# Altium schematic symbol library ECG_board.SchLib: 15 symbols
Pins are listed as number, name and electrical type; pins without a type are passive.

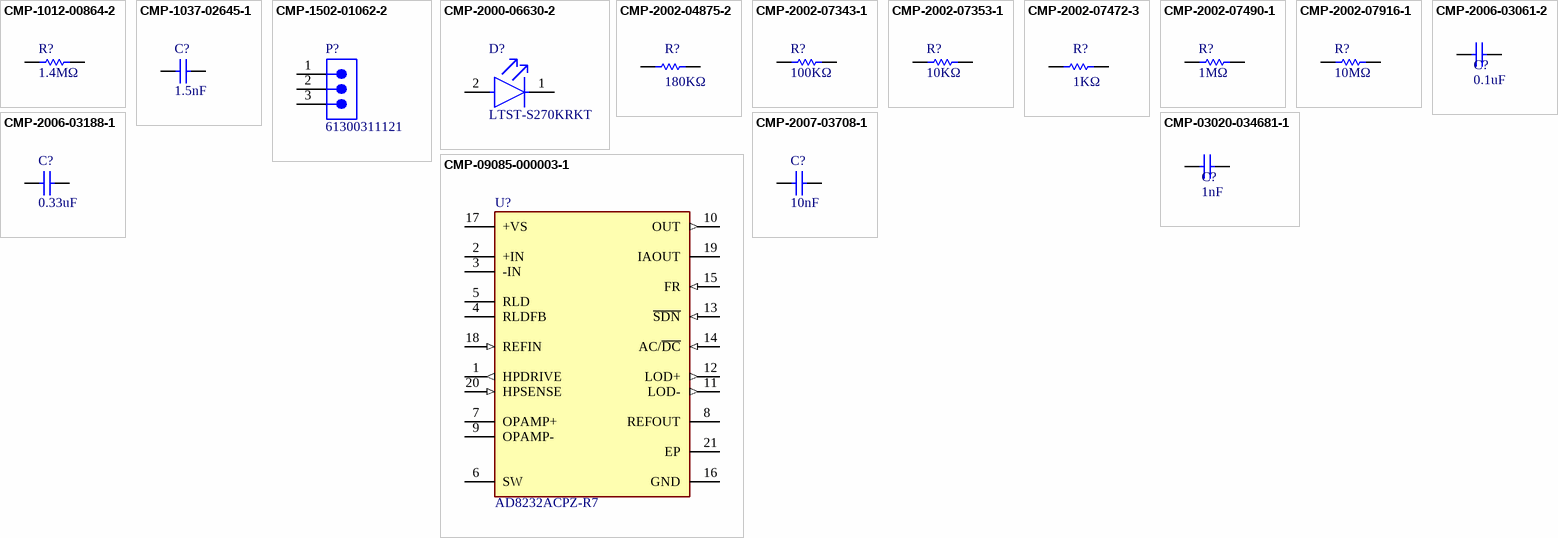
[diagram p0: symbols CMP-1012-00864-2 to CMP-09085-000003-1]

## CMP-1012-00864-2
designator R?, comment 1.4MΩ
RC0603FR-071M4L; Manufacturer: Yageo; Manufacturer: Vishay Dale; Manufacturer Part Number: CRCW06031M40FKTA; Manufacturer Part Number: CRCW06031M40FKEB; Manufacturer: Vishay; Manufacturer Part Number: CRCW06031M40FKEA; Part Number: RC0603FR-071M4L; Manufacturer Part Number: RC0603FR-071M4L
footprint RESC1608X55X25ML10T15 (Chip Resistor, 2-Leads, Body 1.60x0.80mm, IPC Low Density)
footprint RESC1608X55X25LL10T15 (Chip Resistor, 2-Leads, Body 1.60x0.80mm, IPC High Density)
footprint RESC1608X55X25NL10T15 (Chip Resistor, 2-Leads, Body 1.60x0.80mm, IPC Medium Density)
pins: 1, 2
1 alternate drawing of the same symbol

## CMP-1037-02645-1
designator C?, comment 1.5nF
12062C152KAT2A Checked Ceramic Capacitor, Multilayer, Ceramic, 200V, 10% +Tol, 10% -Tol, X7R, 15% TC, 0.0015uF, Surface Mount, 1206 Ceramic Capacitors 0.0582; Manufacturer: KEMET; Manufacturer Part Number: C1206C152K2GAC; Manufacturer Part Number: C1206C152K2RAC; Manufacturer: Kyocera AVX; Manufacturer Part Number: C1206C152K2GACTU; Manufacturer: Vishay; Manufacturer Part Number: VJ1206Y152KXCMC; Manufacturer Part Number: C1206C152K2RAC-TM; Manufacturer Part Number: VJ1206A152KBCAT; Manufacturer Part Number: VJ1206Y152KXCAP; Manufacturer Part Number: VJ1206A152KXCAR; Manufacturer Part Number: VJ1206A152KXCAT; Manufacturer Part Number: 12062C152KAT4A; Manufacturer Part Number: C1206C152K2RACTU; Manufacturer Part Number: VJ1206A152KXCMT; Manufacturer Part Number: VJ1206Y152KXCAC; Manufacturer Part Number: VJ1206Y152KXCMP; Case-EIA: 1206; Tolerance: Â±10%; Case-Metric: 3216; Value: 1.5nF; Max Thickness: 1.7 mm; Technology: SMT; Rated Voltage: 200 V; Manufacturer Part Number: 12062C152KAT2A
footprint CAPC1206(3216)170_L (Chip Capacitor, Body 3.2x1.6mm, Height 1.7mm, IPC High Density)
footprint CAPC1206(3216)170_M (Chip Capacitor, Body 3.2x1.6mm, Height 1.7mm, IPC Low Density)
footprint CAPC1206(3216)170_N (Chip Capacitor, Body 3.2x1.6mm, Height 1.7mm, IPC Medium Density)
pins: 1, 2
1 alternate drawing of the same symbol

## CMP-1502-01062-2
designator P?, comment 61300311121
NexarPartId: 32855521; Manufacturer: Wurth Electronics; Voltage Rating: 250V; Current Rating: 3A; Connector Type: Male Pin; Number of Positions: 3; Gender: Male; Contact Resistance: 20mΩ; Pitch: 2.54mm; Max Operating Temperature: 105°C; Lead Pitch: 2.54mm; Lead Free: Lead Free; Contact Mating Length: 5.9944mm; Contact Material: Copper; Number of Pins: 3; Orientation: Vertical; Height: 8.94mm; Packaging: Bulk; Min Operating Temperature: -40°C; Mount: Through Hole; RoHS: Compliant; Number of Contacts: 3; Operating Supply Voltage: 250V; Termination: Solder; Number of Rows: 1; Contact Plating: Gold; Color: Black; REACH SVHC: Unknown; Manufacturer Part Number: 61300311121
footprint 61300311121 (THT Vertical Pin Header WR-PHD, Pitch 2.54 mm, Single Row, 3 pins)
pins: 1, 2, 3

## CMP-2000-06630-2
designator D?, comment LTST-S270KRKT
LED RED CLEAR CHIP SMD R/A; Manufacturer: Vishay Lite-On; Test Current: 20mA; Number of LEDs: 1; Power Rating: 75mW; Lens Style: Diffused; Luminous Intensity: 54mcd; Wavelength: 639nm; Dominant Wavelength: 631nm; Lens Color: Colorless; Forward Voltage: 2V; Viewing Angle: 130°; Forward Current: 30mA; Reverse Voltage: 5V; Illumination Color: Red; Case Code (Imperial): 0603; Color: Red; Packaging: Tape and Reel; Number of Pins: 2; Length: 1.6mm; Lens Transparency: Clear; Width: 1.15mm; Power Dissipation: 75mW; Lead Free: Lead Free; Max Power Dissipation: 75mW; Case/Package: 0603; Max Operating Temperature: 85°C; Mount: Surface Mount; Depth: 0.6mm; Number of Elements: 1; Radiation Hardening: No; Case Code (Metric): 1608; Package Quantity: 1; Height: 0.6mm; Min Operating Temperature: -55°C; Manufacturer Part Number: LTST-S270KRKT
footprint FP-LTST-S270KRKT-MFG
pins: 1 C, 2 A

## CMP-2002-04875-2
designator R?, comment 180KΩ
Thick Film Chip Resistors 0402 180kΩ 0.0625W 1% 100ppm/°C; Manufacturer: Bourns; Manufacturer Part Number: CR0402-FX-1803GLF; Power Rating: 62.5mW; Resistance: 180kR; Voltage Rating: 50V; Depth: 0.5mm; Tolerance: 1%; Width: 0.5mm; Package Quantity: 10000; Length: 1mm; Height: 0.35mm; Case/Package: 0402; Case Code (Metric): 1005; Thickness: 356um; Max Operating Temperature: 125°C; Termination: SMD/SMT; Packaging: Tape and Reel; Mount: Surface Mount; Military Standard: Not; Contact Plating: Tin; Case Code (Imperial): 0402; Temperature Coefficient: 100ppm/°C; Min Operating Temperature: -55°C; Radiation Hardening: No; Composition: Thick Film
footprint FP-CR0402-IPC_A
footprint FP-CR0402-IPC_C
footprint FP-CR0402-MFG
footprint FP-CR0402-IPC_B
pins: 1, 2

## CMP-2002-07343-1
designator R?, comment 100KΩ
RC0402FR-07100KL; Manufacturer: Yageo / Phycomp; Manufacturer: Yageo; Part Number: RC0402FR-07100KL; Manufacturer Part Number: RC0402FR-07100KL
footprint RESC1005X40X25NL05T10 (Chip Resistor, 2-Leads, Body 1.00x0.50mm, IPC Medium Density)
footprint RESC1005X40X25LL05T10 (Chip Resistor, 2-Leads, Body 1.00x0.50mm, IPC High Density)
footprint RESC1005X40X25ML05T10 (Chip Resistor, 2-Leads, Body 1.00x0.50mm, IPC Low Density)
pins: 1, 2
1 alternate drawing of the same symbol

## CMP-2002-07353-1
designator R?, comment 10KΩ
RC0402FR-0710KL; Manufacturer: Yageo / Phycomp; Manufacturer: Yageo; Part Number: RC0402FR-0710KL; Manufacturer Part Number: RC0402FR-0710KL
footprint RESC1005X40X25LL05T10 (Chip Resistor, 2-Leads, Body 1.00x0.50mm, IPC High Density)
footprint RESC1005X40X25ML05T10 (Chip Resistor, 2-Leads, Body 1.00x0.50mm, IPC Low Density)
footprint RESC1005X40X25NL05T10 (Chip Resistor, 2-Leads, Body 1.00x0.50mm, IPC Medium Density)
pins: 1, 2
1 alternate drawing of the same symbol

## CMP-2002-07472-3
designator R?, comment 1KΩ
RC0402FR-071KL RES 1K OHM 1% 1/16W 0402; Manufacturer: Yageo; Max Power Dissipation: 63mW; Resistance: 1kR; Voltage Rating (DC): 50V; Temperature Coefficient: 100ppm/°C; Power Rating: 62.5mW; Technology: THICK FILM; Size Code: 0402; Series: RC; Length: 1mm; Case/Package: 0402; Features: Moisture Resistant; Termination: SMD/SMT; Case Code (Metric): 1005; Reach SVHC Compliant: Yes; Number of Terminations: 2; Tolerance: 1%; Lead Free: Lead Free; Military Standard: Not; Resistor Type: Thick Film; Max Operating Temperature: 155°C; RoHS Compliant: Yes; Construction: Rectangular; Voltage Rating: 50V; Packaging: Tape and Reel; Height: 0.32mm; Number of Pins: 2; Resistance Tolerance: 1%; Case Code (Imperial): 0402; Depth: 0.5mm; Min Operating Temperature: -55°C; Width: 0.5mm; Manufacturer Part Number: RC0402FR-071KL
footprint FP-RC0402-0_4-IPC_A
footprint FP-RC0402-0_4-IPC_B
footprint FP-RC0402-0_4-MFG
footprint FP-RC0402-0_4-IPC_C
pins: 1, 2

## CMP-2002-07490-1
designator R?, comment 1MΩ
RC0402FR-071ML; Manufacturer: Yageo / Phycomp; Manufacturer: Yageo; Part Number: RC0402FR-071ML; Manufacturer Part Number: RC0402FR-071ML
footprint RESC1005X40X25NL05T10 (Chip Resistor, 2-Leads, Body 1.00x0.50mm, IPC Medium Density)
footprint RESC1005X40X25ML05T10 (Chip Resistor, 2-Leads, Body 1.00x0.50mm, IPC Low Density)
footprint RESC1005X40X25LL05T10 (Chip Resistor, 2-Leads, Body 1.00x0.50mm, IPC High Density)
pins: 1, 2
1 alternate drawing of the same symbol

## CMP-2002-07916-1
designator R?, comment 10MΩ
RC0402JR-0710ML; Manufacturer: Yageo / Phycomp; Manufacturer: Yageo; Part Number: RC0402JR-0710ML; Manufacturer Part Number: RC0402JR-0710ML
footprint RESC1005X40X25ML05T10 (Chip Resistor, 2-Leads, Body 1.00x0.50mm, IPC Low Density)
footprint RESC1005X40X25NL05T10 (Chip Resistor, 2-Leads, Body 1.00x0.50mm, IPC Medium Density)
footprint RESC1005X40X25LL05T10 (Chip Resistor, 2-Leads, Body 1.00x0.50mm, IPC High Density)
pins: 1, 2
1 alternate drawing of the same symbol

## CMP-2006-03061-2
designator C?, comment 0.1uF
C0603C104K5RACTU; Manufacturer: KEMET; Tolerance: 0.1; Temperature Coefficient: 30ppm/°C; Material: Ceramic; Automotive Grade: Grade 1; Voltage Rating: 50 V; Value: 0.10 μF; Temperature Characteristic: X7R; Temperature: -55°C to +125°C; RoHS: TRUE; Temperature Range High: +125°C; Lead Free: Yes; Octopart: https://octopart.com/c0603c104k5ractu-kemet-139244; Digikey Description: CAP CER 0.1UF 50V X7R 0603; Category: Cap; Package: C0603C-CF; ComponentLink2Description: Datasheet; Temperature Range Low: -55°C; Device Class L1: Passive Components; Automotive: Yes; Device Class L3: Ceramic Capacitors; ComponentLink2URL: https://api.kemet.com/component-edge/download/datasheet/C0603C100J5GACAUTO.pdf; Capacitance: 0.10 μF; Device Class L2: Capacitors; Manufacturer Part Number: C0603C104K5RACTU; Height: 0.87mm
footprint FP-C0603C-CF-MFG
footprint FP-C0603C-CF-IPC_C
footprint FP-C0603C-CF-IPC_B
footprint FP-C0603C-CF-IPC_A
pins: 1, 2

## CMP-2006-03188-1
designator C?, comment 0.33uF
Part Number: C0603C334Z3VACTU; Manufacturer: Kemet; Manufacturer: KEMET; Manufacturer Part Number: C0603C334Z3VACTU
footprint CAPC1608X87X35ML15T15 (Chip Capacitor, 2-Leads, Body 1.60x0.80mm, IPC Low Density)
footprint CAPC1608X87X35LL15T15 (Chip Capacitor, 2-Leads, Body 1.60x0.80mm, IPC High Density)
footprint CAPC1608X87X35NL15T15 (Footprint not found)
pins: 1, 2
1 alternate drawing of the same symbol

## CMP-2007-03708-1
designator C?, comment 10nF
C0402C102K5RECAUTO; Part Number: C0805F103K5RACTU; Manufacturer: Kemet; Manufacturer: KEMET; Manufacturer Part Number: C0805F103K5RACTU
footprint CAPC2013X100X50NL20T25 (Chip Capacitor, 2-Leads, Body 2.00x1.25mm, IPC Medium Density)
footprint CAPC2013X100X50LL20T25 (Chip Capacitor, 2-Leads, Body 2.00x1.25mm, IPC High Density)
footprint CAPC2013X100X50ML20T25 (Chip Capacitor, 2-Leads, Body 2.00x1.25mm, IPC Low Density)
pins: 1, 2
1 alternate drawing of the same symbol

## CMP-03020-034681-1
designator C?, comment 1nF
C1206C102KGRACTU; Manufacturer: KEMET; Voltage: 2kV; Tolerance: 10%; Dielectric: X7R; Dissipation Factor: 2.5%; Dielectric Material: Ceramic; Voltage Rating (DC): 2.5kV; REACH SVHC: No SVHC; Height: 1.6mm; Construction: Flat; Case/Package: 1206; Series: C; Mount: Surface Mount; RoHS Compliant: Yes; Package Quantity: 1; Length: 3.2mm; Width: 0.063inch; Voltage Rating: 2kV; Min Operating Temperature: -55°C; Case Code (Metric): 3216; Termination: SMD/SMT; Number of Pins: 2; Case Code (Imperial): 1206; Packaging: Tape and Reel; Thickness: 0.069inch; Depth: 1.6mm; Capacitance: 1nF; Radiation Hardening: No; Max Operating Temperature: 125°C; Manufacturer Part Number: C1206C102KGRACTU
footprint FP-C1206C-EF-MFG
footprint FP-C1206C-EF-IPC_C
footprint FP-C1206C-EF-IPC_B
footprint FP-C1206C-EF-IPC_A
pins: 1, 2

## CMP-09085-000003-1
designator U?, comment AD8232ACPZ-R7
IC ECG FRONT END 20LFCSP; Manufacturer: Analog Devices; Input Offset Voltage (Vos): 3mV; Power Supply Rejection Ratio (PSRR): 90dB; Input Bias Current: 50pA; Nominal Supply Current: 170uA; Min Supply Voltage: 2V; Common Mode Rejection Ratio: 80dB; Max Supply Voltage: 3.5V; Contact Plating: Tin; Operating Supply Current: 170uA; Packaging: Tape and Reel; REACH SVHC: No SVHC; Case/Package: LFCSP EP; Number of Pins: 20; Lead Free: Contains Lead; Min Operating Temperature: -40°C; Package Quantity: 1500; Mount: Surface Mount; Max Operating Temperature: 85°C; Manufacturer Part Number: AD8232ACPZ-R7
footprint FP-CP-20-8-IPC_C (Footprint not found)
footprint FP-CP-20-8-IPC_B
footprint FP-CP-20-8-IPC_A
pins: 1 HPDRIVE (out), 2 +IN (hiz), 3 -IN (hiz), 4 RLDFB, 5 RLD, 6 SW, 7 OPAMP+ (hiz), 8 REFOUT, 9 OPAMP- (hiz), 10 OUT (out), 11 LOD- (out), 12 LOD+ (out), 13 ~{SDN} (in), 14 AC/~{DC} (in), 15 FR (in), 16 GND (power), 17 +VS (power), 18 REFIN (in), 19 IAOUT, 20 HPSENSE (in), 21 EP (power)